# Altium footprint library SPE_router_lib.PcbLib: 17 footprints (part 1 of 2)
Each footprint in its own frame and in the unit in brackets; x right, y up, seen from the top. Pads: shape width x height; smd on the part's side, far side on the other; paste and mask are expansions set on the pad; w line width, h text height; cw(c..) or ccw(c..) is an arc to the next point about the centre after c.
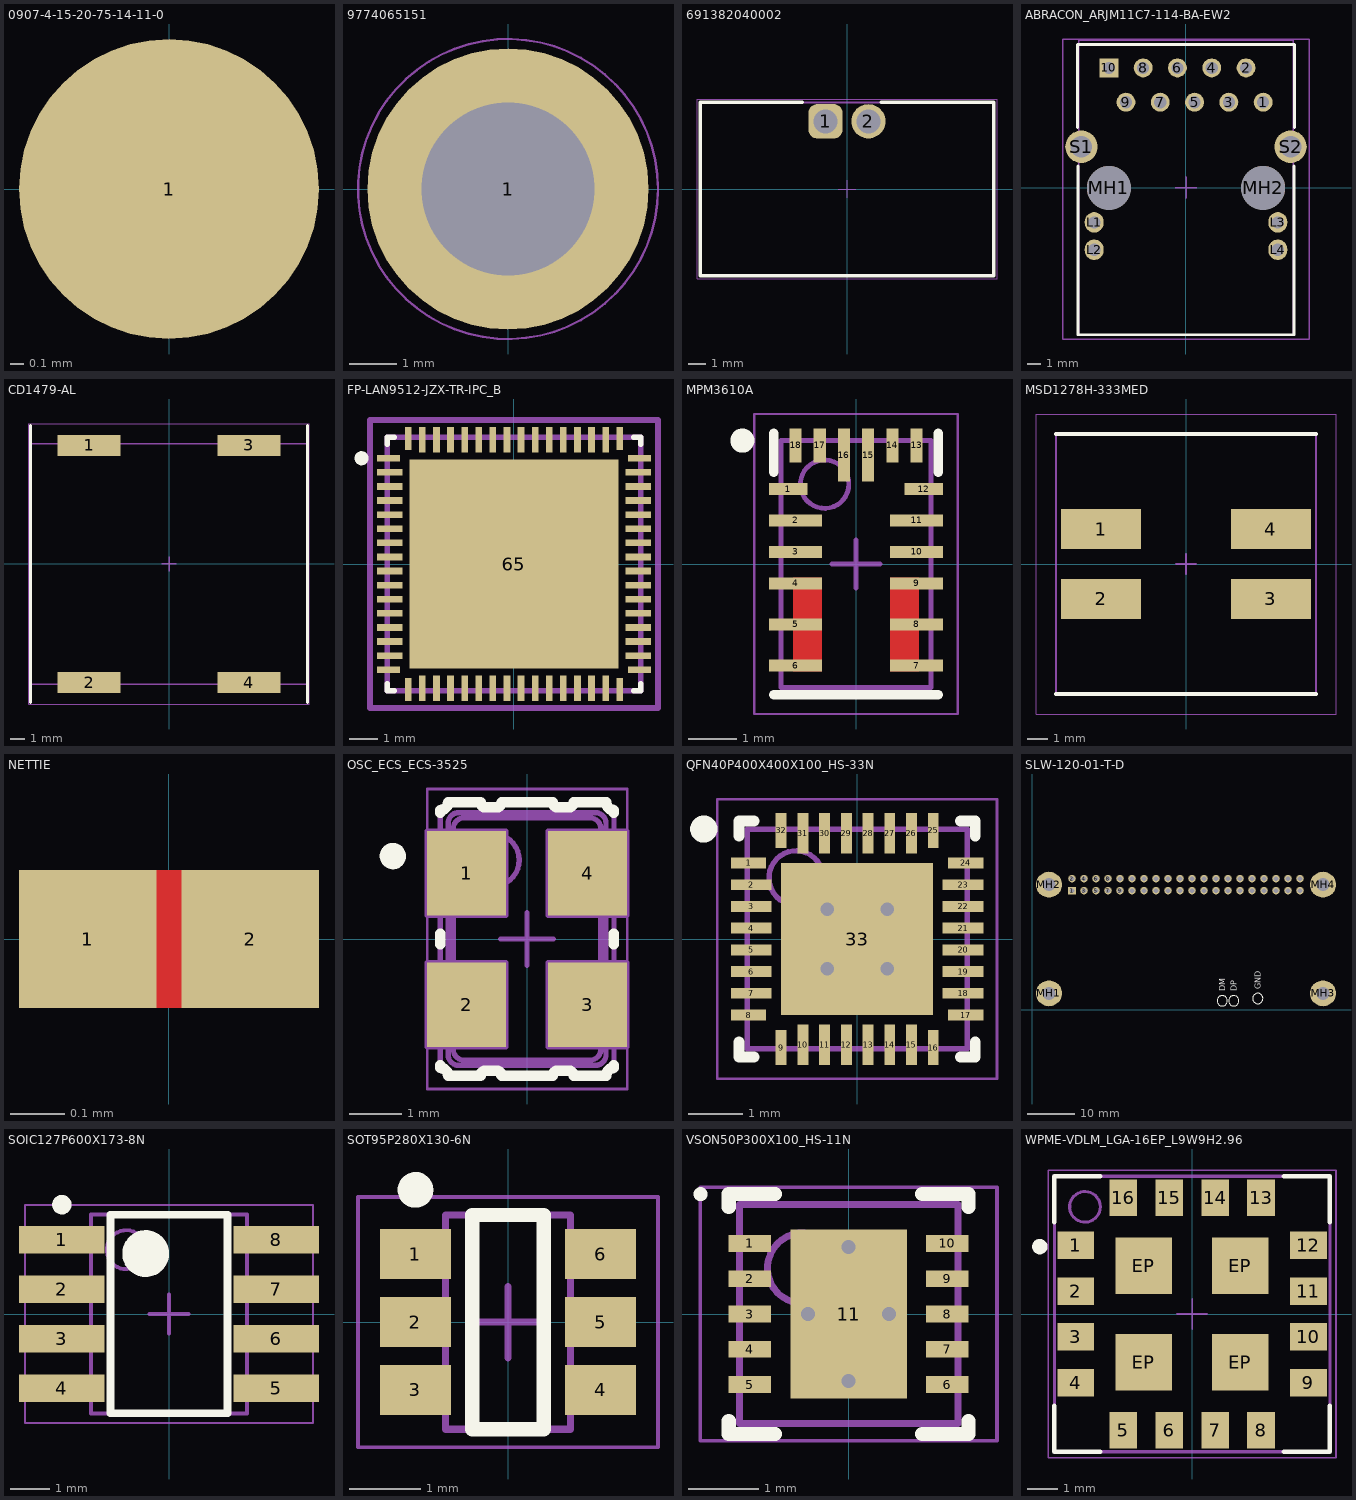
[diagram p0: the footprints below, top view; thin cyan lines are the x and y axes]

## 0907-4-15-20-75-14-11-0 [mm]
pads (1):
  round 2.2 smd: 1(0,0)
3D body "mill-max-0907-4-15-20-75-14-11-0.step": height 8.51, standoff 0, extent -0.908,-0.914 0.908,0.914

## 9774065151 [mm] "SMT Steel Spacer with internal Thread M2.5, height 6.5mm"
height 6.5
pads (1):
  round 6 / inner round 0 / far side round 0 hole 3.7 unplated: 1(0,0)
Top Paste:
  region: 0.325,2.902 0.57,2.874 1.044,2.738 1.488,2.524 1.89,2.239 2.239,1.89 2.524,1.488 2.738,1.044 2.874,0.57 2.902,0.325 1.872,0.325 1.842,0.467 1.749,0.743 1.615,1.002 1.443,1.237 1.237,1.442 1.002,1.614 0.744,1.748 0.468,1.842 0.325,1.872
  region: 2.902,-0.325 2.874,-0.57 2.738,-1.044 2.524,-1.488 2.239,-1.89 1.89,-2.239 1.488,-2.524 1.044,-2.738 0.57,-2.874 0.325,-2.902 0.325,-1.872 0.467,-1.842 0.743,-1.749 1.002,-1.615 1.237,-1.443 1.442,-1.237 1.614,-1.002 1.748,-0.744 1.842,-0.468 1.872,-0.325
  region: -0.325,-2.902 -0.57,-2.874 -1.044,-2.738 -1.488,-2.524 -1.89,-2.239 -2.239,-1.89 -2.524,-1.488 -2.738,-1.044 -2.874,-0.57 -2.902,-0.325 -1.872,-0.325 -1.842,-0.467 -1.749,-0.743 -1.615,-1.002 -1.443,-1.237 -1.237,-1.442 -1.002,-1.614 -0.744,-1.748 -0.468,-1.842 -0.325,-1.872
  region: -2.902,0.325 -2.874,0.57 -2.738,1.044 -2.524,1.488 -2.239,1.89 -1.89,2.239 -1.488,2.524 -1.044,2.738 -0.57,2.874 -0.325,2.902 -0.325,1.872 -0.467,1.842 -0.743,1.749 -1.002,1.615 -1.237,1.443 -1.442,1.237 -1.614,1.002 -1.748,0.744 -1.842,0.468 -1.872,0.325
Top 3D Body:
  circle w0.1: c0,0 r2.55
Top Courtyard:
  circle w0.05: c0,0 r3.2
  lines w0.05: -0.5,0 0.5,0 ; 0,-0.5 0,0.5
Top Designator:
  text ".Designator" at -7.498,-0.5 h1.5
Top Component Outline:
  circle w0.1: c0,0 r2.55
3D body "9774065151.stp": height 6.5, standoff -1.4, extent -2.55,-2.547 2.55,2.547

## 691382040002 [mm] "Horizontal PCB Header with Flanges, pitch 2.5mm, 02p"
height 8.1
pads (2):
  rrect50% 2x2 hole 1.4: 1(-1.25,3.95)
  round 2 hole 1.4: 2(1.25,3.95)
Top Overlay:
  lines w0.2: -2.6,5.05 -8.55,5.05 -8.55,-5.05 8.55,-5.05 8.55,5.05 2,5.05
Top 3D Body:
  lines w0.1: -8.55,-5.05 -8.55,5.05 8.55,5.05 8.55,-5.05 -8.55,-5.05
Top Courtyard:
  lines w0.05: -0.5,0 0.5,0 ; 0,-0.5 0,0.5 ; -8.75,-5.25 8.75,-5.25 8.75,5.25 -8.75,5.25 -8.75,-5.25
Top Designator:
  text ".Designator" at -7.498,-0.5 h1.5
Top Component Outline:
  lines w0.1: -8.55,-5.05 8.55,-5.05 8.55,5.05 -8.55,5.05 -8.55,-5.05
3D body "691382040002.stp": height 8.15, standoff -3.45, extent -8.55,-5.05 8.55,5.05

## ABRACON_ARJM11C7-114-BA-EW2 [mm]
pads (18):
  round 1.4 hole 0.9: 1(5.715,6.35) 2(4.445,8.89) 3(3.175,6.35) 4(1.905,8.89) 5(0.635,6.35) 6(-0.635,8.89) 7(-1.905,6.35) 8(-3.175,8.89) 9(-4.445,6.35)
  rect 1.4x1.4 hole 0.9: 10(-5.715,8.89)
  oval 1.4x1.52 hole 0.9: L1(-6.8,-2.55) L2(-6.8,-4.58) L3(6.8,-2.55) L4(6.8,-4.58)
  round 3.25 hole 3.25 unplated: MH1(-5.715,0) MH2(5.715,0)
  round 2.4 hole 1.6: S1(-7.745,3.05) S2(7.745,3.05)
Top Overlay:
  lines w0.2: -8.04,4.47 -8.04,10.63 8.04,10.63 8.04,4.47 ; -8,1.63 -8,-10.87 8,-10.87 8,1.63
Top Component Outline:
  lines w0.1: -7.94,-10.89 7.94,-10.89 7.94,10.95 -7.94,10.95 -7.94,-10.89
  text ".Designator" at 0,0.03 h1
Mechanical 13:
  lines w0.1: -7.94,-10.89 -7.94,10.63 7.94,10.63 7.94,-10.89 -7.94,-10.89
Mechanical 15:
  lines w0.1: -0.8,0.03 0.8,0.03 ; 0,-0.77 0,0.83 ; -9.145,-11.19 -9.145,11.03 9.145,11.03 9.145,-11.19 -9.145,-11.19
3D body "ARJ11C-MBSAT-A-B-3MU2.STEP": height 16.15, standoff -3.29, extent -10.327,-10.871 10.328,10.63

## CD1479-AL [mm] "Common Mode Choke"
height 9.91
pads (4):
  rect 4.45x1.5 smd: 1(-5.65,8.38) 2(-5.65,-8.38) 3(5.65,8.38) 4(5.65,-8.38)
Top Overlay:
  lines w0.2: -9.8,-9.8 -9.8,9.8 ; 9.8,-9.8 9.8,9.8
Top Courtyard:
  lines w0.05: -9.9,-9.9 9.9,-9.9 9.9,9.9 -9.9,9.9 -9.9,-9.9
  lines w0.1: -0.5,0 0.5,0 ; 0,-0.5 0,0.5
Top Assembly:
  lines w0.1: -9.78,-8.51 -9.78,8.51 9.78,8.51 9.78,-8.51 -9.78,-8.51
3D body "Coilcraft-CD1479-AL.step": height 9.96, standoff 0.05, extent -8.51,-9.78 8.51,9.78

## FP-LAN9512-JZX-TR-IPC_B [mm]
pads (65):
  rect 0.81x0.239 smd paste+0 mask+0: 1(-4.451,3.75) 16(-4.451,-3.75) 33(4.451,-3.75) 48(4.451,3.75)
  rect 0.91x0.239 smd paste+0 mask+0: 2(-4.401,3.25) 3(-4.401,2.75) 4(-4.401,2.25) 5(-4.401,1.75) 6(-4.401,1.25) 7(-4.401,0.75) 8(-4.401,0.25) 9(-4.401,-0.25) 10(-4.401,-0.75) 11(-4.401,-1.25) 12(-4.401,-1.75) 13(-4.401,-2.25) 14(-4.401,-2.75) 15(-4.401,-3.25) 34(4.401,-3.25) 35(4.401,-2.75) 36(4.401,-2.25) 37(4.401,-1.75) 38(4.401,-1.25) 39(4.401,-0.75) 40(4.401,-0.25) 41(4.401,0.25) 42(4.401,0.75) 43(4.401,1.25) 44(4.401,1.75) 45(4.401,2.25) 46(4.401,2.75) 47(4.401,3.25)
  rect 0.239x0.81 smd paste+0 mask+0: 17(-3.75,-4.451) 32(3.75,-4.451) 49(3.75,4.451) 64(-3.75,4.451)
  rect 0.239x0.91 smd paste+0 mask+0: 18(-3.25,-4.401) 19(-2.75,-4.401) 20(-2.25,-4.401) 21(-1.75,-4.401) 22(-1.25,-4.401) 23(-0.75,-4.401) 24(-0.25,-4.401) 25(0.25,-4.401) 26(0.75,-4.401) 27(1.25,-4.401) 28(1.75,-4.401) 29(2.25,-4.401) 30(2.75,-4.401) 31(3.25,-4.401) 50(3.25,4.401) 51(2.75,4.401) 52(2.25,4.401) 53(1.75,4.401) 54(1.25,4.401) 55(0.75,4.401) 56(0.25,4.401) 57(-0.25,4.401) 58(-0.75,4.401) 59(-1.25,4.401) 60(-1.75,4.401) 61(-2.25,4.401) 62(-2.75,4.401) 63(-3.25,4.401)
  rect 7.4x7.4 smd paste-1000 mask+0: 65(0,0)
Top Overlay:
  circle w0.25: c-5.406,3.75 r0.125
  lines w0.2: -4.5,-4.25 -4.5,-4.5 -4.25,-4.5 ; -4.5,4.25 -4.5,4.5 -4.25,4.5 ; 4.25,-4.5 4.5,-4.5 4.5,-4.25 ; 4.25,4.5 4.5,4.5 4.5,4.25
Top Paste:
  rectangle: -3.02,1.46 -1.46,3.02
  rectangle: -0.78,1.46 0.78,3.02
  rectangle: 1.46,1.46 3.02,3.02
  rectangle: -3.02,-0.78 -1.46,0.78
  rectangle: -0.78,-0.78 0.78,0.78
  rectangle: 1.46,-0.78 3.02,0.78
  rectangle: -3.02,-3.02 -1.46,-1.46
  rectangle: -0.78,-3.02 0.78,-1.46
  rectangle: 1.46,-3.02 3.02,-1.46
Top 3D Body:
  lines w0.2: -4.5,-4.5 4.5,-4.5 4.5,4.5 -4.5,4.5 -4.5,-4.5
Top Courtyard:
  lines w0.2: -5.106,-5.106 5.106,-5.106 5.106,5.106 -5.106,5.106 -5.106,-5.106
Top Component Center:
  lines w0.1: -0.5,0 0.5,0 ; 0,-0.5 0,0.5
Top Assembly:
  lines w0.2: -5.106,-5.106 5.106,-5.106 5.106,5.106 -5.106,5.106 -5.106,-5.106
  text ".Designator" at 0,-0.001 h1
3D body "IC_Microchip_LAN9512-JZX-TR_eec.STEP": height 0.25, standoff 0, extent -5.106,-5.106 5.106,5.106

## MPM3610A [mm] "MPM3610A, Body 3,00x5,00mm, Pitch 0,50mm, IPC Medium Density"
height 1.65
pads (18):
  rect 0.8x0.25 smd: 1(-1.4,1.55) 12(1.4,1.55)
  rect 1.1x0.25 smd: 2(-1.25,0.9) 3(-1.25,0.25) 4(-1.25,-0.4) 5(-1.25,-1.25) 6(-1.25,-2.1) 7(1.25,-2.1) 8(1.25,-1.25) 9(1.25,-0.4) 10(1.25,0.25) 11(1.25,0.9)
  rect 0.25x0.7 smd: 13(1.25,2.45) 14(0.75,2.45) 17(-0.75,2.45) 18(-1.25,2.45)
  rect 0.25x1.1 smd: 15(0.25,2.25) 16(-0.25,2.25)
Top Layer:
  region: -0.7,-2.225 -0.7,-0.275 -1.3,-0.275 -1.3,-2.225
  region: 1.3,-2.225 1.3,-0.275 0.7,-0.275 0.7,-2.225
Top Overlay:
  circle w0.25: c-2.35,2.55 r0.125
  lines w0.2: -1.7,-2.7 1.7,-2.7 ; -1.7,1.9 -1.7,2.7 ; 1.7,1.9 1.7,2.7
Top Courtyard:
  lines w0.05: -2.1,-3.1 -2.1,3.1 2.1,3.1 2.1,-3.1 -2.1,-3.1
  lines w0.1: -0.5,0 0.5,0 ; 0,-0.5 0,0.5
Top Assembly:
  circle w0.1: c-0.65,1.65 r0.5
  lines w0.1: -1.55,-2.55 -1.55,2.55 1.55,2.55 1.55,-2.55 -1.55,-2.55
3D body: height 1.65, standoff 0.05, extent -1.55,-2.55 1.55,2.55

## MSD1278H-333MED [mm] "Coupled Inductor"
height 9.91
pads (4):
  rect 4x2 smd: 1(-4.25,1.75) 2(-4.25,-1.75) 3(4.25,-1.75) 4(4.25,1.75)
Top Overlay:
  lines w0.2: -6.5,-6.5 6.5,-6.5 ; -6.5,6.5 6.5,6.5
Top Courtyard:
  lines w0.05: -7.5,-7.5 -7.5,7.5 7.5,7.5 7.5,-7.5 -7.5,-7.5
  lines w0.1: -0.5,0 0.5,0 ; 0,-0.5 0,0.5
Top Assembly:
  lines w0.1: -6.5,-6.5 6.5,-6.5 6.5,6.5 -6.5,6.5 -6.5,-6.5
3D body "Coilcraft-MSD1278H.step": height 8.05, standoff 0, extent -6.1,-6.1 6.2,6.2

## NETTIE [mil]
pads (2):
  rrect0% 10x10 smd paste-99999 mask+4: 1(-5.87,0) 2(5.94,0)
Top Layer:
  rectangle: -2,-5 2,5

## OSC_ECS_ECS-3525 [mm] "SMD Oscillator, 4 pins, 5 x 3.2mm, 3525 Series"
height 1.3
pads (4):
  rect 1.5x1.6 smd: 1(-1.15,1.25) 2(-1.15,-1.25) 3(1.15,-1.25) 4(1.15,1.25)
Top Overlay:
  circle w0.25: c-2.55,1.575 r0.125
  lines w0.2: -1.65,-2.4 -1.65,-2.45 cw(c-1.65,-2.6) -1.5,-2.6 -0.885,-2.6 cw(c-0.785,-2.6) -0.785,-2.5 -0.585,-2.5 cw(c-0.585,-2.6) -0.485,-2.6 0.485,-2.6 cw(c0.585,-2.6) 0.585,-2.5 0.785,-2.5 cw(c0.785,-2.6) 0.885,-2.6 1.5,-2.6 cw(c1.65,-2.6) 1.65,-2.45 1.65,-2.4 ; -1.65,-0.1 -1.65,0.1 ; -1.65,2.4 -1.65,2.45 ccw(c-1.65,2.6) -1.5,2.6 -0.885,2.6 ccw(c-0.785,2.6) -0.785,2.5 -0.585,2.5 ccw(c-0.585,2.6) -0.485,2.6 0.485,2.6 ccw(c0.585,2.6) 0.585,2.5 0.785,2.5 ccw(c0.785,2.6) 0.885,2.6 1.5,2.6 ccw(c1.65,2.6) 1.65,2.45 1.65,2.4 ; 1.65,-0.1 1.65,0.1
Mechanical 8:
  lines w0.1: -1.65,-1.25 -1.15,-1.25 ; -1.65,1.25 -1.15,1.25 ; -1.15,-1.75 -1.15,-1.25 ; -1.15,-0.75 -1.15,-1.25 ; -1.15,0.75 -1.15,1.25 ; -1.15,1.75 -1.15,1.25 ; -0.65,-1.25 -1.15,-1.25 ; -0.65,1.25 -1.15,1.25 ; -0.5,0 0,0 ; 0,-0.5 0,0 ; 0,0.5 0,0 ; 0.5,0 0,0 ; 0.65,-1.25 1.15,-1.25 ; 0.65,1.25 1.15,1.25 ; 1.15,-1.75 1.15,-1.25 ; 1.15,-0.75 1.15,-1.25 ; 1.15,0.75 1.15,1.25 ; 1.15,1.75 1.15,1.25 ; 1.65,-1.25 1.15,-1.25 ; 1.65,1.25 1.15,1.25 ; -1.9,-2.05 -1.9,-0.45 -0.4,-0.45 -0.4,-2.05 -1.9,-2.05 ; -1.9,0.45 -1.9,2.05 -0.4,2.05 -0.4,0.45 -1.9,0.45 ; 0.4,-2.05 0.4,-0.45 1.9,-0.45 1.9,-2.05 0.4,-2.05 ; 0.4,0.45 0.4,2.05 1.9,2.05 1.9,0.45 0.4,0.45
Mechanical 14:
  circle w0.1: c-0.65,1.5 r0.5
  lines w0.1: -1.65,-2.45 cw(c-1.65,-2.6) -1.5,-2.6 -0.885,-2.6 cw(c-0.785,-2.6) -0.785,-2.5 -0.585,-2.5 cw(c-0.585,-2.6) -0.485,-2.6 0.485,-2.6 cw(c0.585,-2.6) 0.585,-2.5 0.785,-2.5 cw(c0.785,-2.6) 0.885,-2.6 1.5,-2.6 cw(c1.65,-2.6) 1.65,-2.45 1.65,-1.97 1.55,-1.87 1.55,-0.67 1.65,-0.57 1.65,0.57 1.55,0.67 1.55,1.87 1.65,1.97 1.65,2.45 cw(c1.65,2.6) 1.5,2.6 0.885,2.6 cw(c0.785,2.6) 0.785,2.5 0.585,2.5 cw(c0.585,2.6) 0.485,2.6 -0.485,2.6 cw(c-0.585,2.6) -0.585,2.5 -0.785,2.5 cw(c-0.785,2.6) -0.885,2.6 -1.5,2.6 cw(c-1.65,2.6) -1.65,2.45 -1.65,1.97 -1.55,1.87 -1.55,0.67 -1.65,0.57 -1.65,-0.57 -1.55,-0.67 -1.55,-1.87 -1.65,-1.97 -1.65,-2.45 ; -1.5,-2.2 ccw(c-1.3,-2.2) -1.3,-2.4 1.3,-2.4 ccw(c1.3,-2.2) 1.5,-2.2 1.5,2.2 ccw(c1.3,2.2) 1.3,2.4 -1.3,2.4 ccw(c-1.3,2.2) -1.5,2.2 -1.5,-2.2 ; -1.4,-2.1 ccw(c-1.197,-2.099) -1.2,-2.302 1.2,-2.3 ccw(c1.2,-2.1) 1.4,-2.1 1.4,2.1 ccw(c1.2,2.1) 1.2,2.3 -1.2,2.3 ccw(c-1.2,2.1) -1.4,2.1 -1.4,-2.1
Mechanical 15:
  lines w0.05: -1.9,-2.85 1.9,-2.85 1.9,2.85 -1.9,2.85 -1.9,-2.85
3D body "OSC_ECS_3525.stp": height 1.3, standoff 0, extent -1.65,-2.6 1.65,2.6

## QFN40P400X400X100_HS-33N [mm] "QFN, 32-Leads, Body 4,00x4,00mm, Pitch 0,40mm, Thermal Pad 2,80x2,80mm, IPC Medium Density"
height 1
pads (33):
  rect 0.65x0.2 smd: 1(-2,1.4) 8(-2,-1.4) 17(2,-1.4) 24(2,1.4)
  rect 0.75x0.2 smd: 2(-1.95,1) 3(-1.95,0.6) 4(-1.95,0.2) 5(-1.95,-0.2) 6(-1.95,-0.6) 7(-1.95,-1) 18(1.95,-1) 19(1.95,-0.6) 20(1.95,-0.2) 21(1.95,0.2) 22(1.95,0.6) 23(1.95,1)
  rect 0.2x0.65 smd: 9(-1.4,-2) 16(1.4,-2) 25(1.4,2) 32(-1.4,2)
  rect 0.2x0.75 smd: 10(-1,-1.95) 11(-0.6,-1.95) 12(-0.2,-1.95) 13(0.2,-1.95) 14(0.6,-1.95) 15(1,-1.95) 26(1,1.95) 27(0.6,1.95) 28(0.2,1.95) 29(-0.2,1.95) 30(-0.6,1.95) 31(-1,1.95)
  rect 2.8x2.8 smd: 33(0,0)
via 0.55,-0.55 diameter 0.5 hole 0.25
via -0.55,-0.55 diameter 0.5 hole 0.25
via 0.55,0.55 diameter 0.5 hole 0.25
via -0.55,0.55 diameter 0.5 hole 0.25
Top Overlay:
  circle w0.25: c-2.825,2.025 r0.125
  lines w0.2: -2.175,-1.9 -2.175,-2.175 -1.9,-2.175 ; -2.175,1.9 -2.175,2.175 -1.9,2.175 ; 1.9,-2.175 2.175,-2.175 2.175,-1.9 ; 1.9,2.175 2.175,2.175 2.175,1.9
Top Courtyard:
  lines w0.05: -2.575,-2.575 2.575,-2.575 2.575,2.575 -2.575,2.575 -2.575,-2.575
  lines w0.1: -0.5,0 0.5,0 ; 0,-0.5 0,0.5
Mechanical 13:
  circle w0.1: c-1.125,1.125 r0.5
  lines w0.1: -2.025,-2.025 2.025,-2.025 2.025,2.025 -2.025,2.025 -2.025,-2.025
3D body "QFN40P400X400X100_HS-33N.step": height 1, standoff 0, extent -2.026,-2.026 2.026,2.026

## SLW-120-01-T-D [mm] "for Raspberry Pi Zero 2"
pads (44):
  rect 1.6x1.6 hole 1: 1(8.37,25.23)
  round 1.6 hole 1: 2(8.37,27.77) 3(10.91,25.23) 4(10.91,27.77) 5(13.45,25.23) 6(13.45,27.77) 7(15.99,25.23) 8(15.99,27.77) 9(18.53,25.23) 10(18.53,27.77) 11(21.07,25.23) 12(21.07,27.77) 13(23.61,25.23) 14(23.61,27.77) 15(26.15,25.23) 16(26.15,27.77) 17(28.69,25.23) 18(28.69,27.77) 19(31.23,25.23) 20(31.23,27.77) 21(33.77,25.23) 22(33.77,27.77) 23(36.31,25.23) 24(36.31,27.77) 25(38.85,25.23) 26(38.85,27.77) 27(41.39,25.23) 28(41.39,27.77) 29(43.93,25.23) 30(43.93,27.77) 31(46.47,25.23) 32(46.47,27.77) 33(49.01,25.23) 34(49.01,27.77) 35(51.55,25.23) 36(51.55,27.77) 37(54.09,25.23) 38(54.09,27.77) 39(56.63,25.23) 40(56.63,27.77)
  round 5.5 hole 2.75 mask+0.1: MH1(3.5,3.5) MH2(3.5,26.5) MH3(61.5,3.5) MH4(61.5,26.5)
Top Overlay:
  circle w0.2: c47.71,2.41 r1.1
  circle w0.2: c40.17,1.92 r1.1
  circle w0.2: c42.6,1.92 r1.1
  text "GND" at 48.31,4.39 h1.2
  text "DP" at 43.2,3.9 h1.2
  text "DM" at 40.77,3.9 h1.2

## SOIC127P600X173-8N [mm] "SOIC, 8-Leads, Body 4,93x3,90mm, Pitch 1,27mm, IPC Medium Density"
height 1.73
pads (8):
  rect 2.2x0.7 smd: 1(-2.75,1.905) 2(-2.75,0.635) 3(-2.75,-0.635) 4(-2.75,-1.905) 5(2.75,-1.905) 6(2.75,-0.635) 7(2.75,0.635) 8(2.75,1.905)
Top Overlay:
  circle w0.6: c-0.6,1.55 r0.3
  circle w0.25: c-2.75,2.805 r0.125
  lines w0.2: -1.5,-2.55 -1.5,2.55 1.5,2.55 1.5,-2.55 -1.5,-2.55
Top Courtyard:
  lines w0.05: -3.7,-2.8 3.7,-2.8 3.7,2.8 -3.7,2.8 -3.7,-2.8
  lines w0.1: -0.5,0 0.5,0 ; 0,-0.5 0,0.5
Top Assembly:
  circle w0.1: c-1.1,1.65 r0.5
  lines w0.1: -2,-2.55 2,-2.55 2,2.55 -2,2.55 -2,-2.55
3D body "SOIC127P600X173-8N.step": height 1.73, standoff 0, extent -2.995,-2.55 2.995,2.55

## SOT95P280X130-6N [mm] "SOT23, 6-Leads, Body 2,90x2,80mm, Pitch 0,95mm, IPC Medium Density"
height 1.3
pads (6):
  rect 1x0.7 smd: 1(-1.295,0.95) 2(-1.295,0) 3(-1.295,-0.95) 4(1.295,-0.95) 5(1.295,0) 6(1.295,0.95)
Top Overlay:
  circle w0.25: c-1.295,1.85 r0.125
  lines w0.2: -0.5,-1.5 0.5,-1.5 0.5,1.5 -0.5,1.5 -0.5,-1.5
Top Courtyard:
  lines w0.05: -2.1,-1.75 -2.1,1.75 2.1,1.75 2.1,-1.75 -2.1,-1.75
  lines w0.1: -0.5,0 0.5,0 ; 0,-0.5 0,0.5
Top Assembly:
  lines w0.1: -0.875,-1.5 -0.875,1.5 0.875,1.5 0.875,-1.5 -0.875,-1.5
3D body "SOT95P280X130-6N.step": height 1.3, standoff 0, extent -1.5,-1.5 1.5,1.5

## VSON50P300X100_HS-11N [mm] "VSON, 10-Leads, Body 3,00x3,00mm, Pitch 0,50mm, Thermal Pad 1,60x0,89mm, IPC Medium Density"
height 1
pads (11):
  rect 0.6x0.24 smd: 1(-1.4,1) 2(-1.4,0.5) 3(-1.4,0) 4(-1.4,-0.5) 5(-1.4,-1) 6(1.4,-1) 7(1.4,-0.5) 8(1.4,0) 9(1.4,0.5) 10(1.4,1)
  rect 1.65x2.4 smd: 11(0,0)
via 0.575,0 diameter 0.45 hole 0.2
via -0.575,0 diameter 0.45 hole 0.2
via 0,0.95 diameter 0.45 hole 0.2
via 0,-0.95 diameter 0.45 hole 0.2
Top Overlay:
  circle w0.1: c-2.1,1.7 r0.05
  lines w0.2: -1.7,-1.52 -1.7,-1.7 -1.045,-1.7 ; -1.7,1.52 -1.7,1.7 -1.045,1.7 ; 1.045,-1.7 1.7,-1.7 1.7,-1.52 ; 1.045,1.7 1.7,1.7 1.7,1.52
Top Courtyard:
  lines w0.05: -2.105,-1.8 2.105,-1.8 2.105,1.8 -2.105,1.8 -2.105,-1.8
  lines w0.1: -0.5,0 0.5,0 ; 0,-0.5 0,0.5
Top Assembly:
  circle w0.1: c-0.65,0.65 r0.5
  lines w0.1: -1.55,-1.55 1.55,-1.55 1.55,1.55 -1.55,1.55 -1.55,-1.55
3D body "VSON50P300X100_HS-11N.step": height 1, standoff 0, extent -1.63,-1.55 1.63,1.55

## WPME-VDLM_LGA-16EP_L9W9H2.96 [mm] "Variable Step Down Regulator Module, LGA-16EP, body 9.00x9.00mm"
height 2.96
pads (20):
  rect 1.2x0.9 smd paste-0.025: 1(-3.8,2.25) 2(-3.8,0.75) 3(-3.8,-0.75) 4(-3.8,-2.25) 9(3.8,-2.25) 10(3.8,-0.75) 11(3.8,0.75) 12(3.8,2.25)
  rect 0.9x1.2 smd paste-0.025: 5(-2.25,-3.8) 6(-0.75,-3.8) 7(0.75,-3.8) 8(2.25,-3.8) 13(2.25,3.8) 14(0.75,3.8) 15(-0.75,3.8) 16(-2.25,3.8)
  rect 1.85x1.85 smd paste-0.1: EP(-1.575,-1.575) EP(-1.575,1.575) EP(1.575,-1.575) EP(1.575,1.575)
Top Overlay:
  circle w0.25: c-4.975,2.2 r0.125
  lines w0.15: -4.5,-3 -4.5,-4.5 -3,-4.5 ; -4.5,3 -4.5,4.5 -3,4.5 ; 3,-4.5 4.5,-4.5 4.5,-3 ; 3,4.5 4.5,4.5 4.5,3
Top 3D Body:
  circle w0.1: c-3.5,3.5 r0.5
  lines w0.1: -4.5,-4.5 4.5,-4.5 4.5,4.5 -4.5,4.5 -4.5,-4.5
Top Courtyard:
  lines w0.05: -0.5,0 0.5,0 ; 0,-0.5 0,0.5 ; -4.7,-4.7 -4.7,4.7 4.7,4.7 4.7,-4.7 -4.7,-4.7
Top Designator:
Top Component Outline:
  circle w0.1: c-3.5,3.5 r0.5
  lines w0.1: -4.5,-4.5 4.5,-4.5 4.5,4.5 -4.5,4.5 -4.5,-4.5
3D body "171031801.stp": height 3, standoff 0.04, extent -4.5,-4.5 4.5,4.5